# EAGLE library part 043045061 (library RoboJackets-Connectors)
Description: Connector Header Surface Mount, Right Angle 6 position 0.118" (3.00mm) Angle Link: Digi-Key <https://www.digikey.com/product-detail/en/molex/0430450610/WM7063CT-ND/3044991>
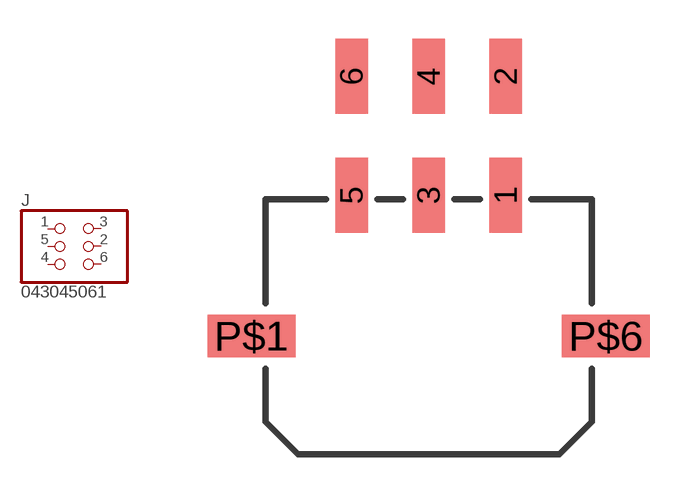
[diagram p8: symbol with the pads of 0430450610; footprint 0430450610]

Designator prefix J

## 0430450610 (DKPN: WM7063CT-ND)  [0430450610]
1  1  pas
2  4  pas
3  2  pas
4  5  pas
5  3  pas
6  6  pas

## Footprint 0430450610 (pad centres in mm)
smd 1.27 x 2.92: 1 3,5.47; 2 3,10.1; 3 0,5.47; 4 0,10.1; 5 -3,5.47; 6 -3,10.1
smd 3.43 x 1.65: P$1 -6.895,0; P$6 6.895,0